# Altium schematic symbol library mems_and_imu_modules.SchLib: 3 symbols
Pins are listed as number, name and electrical type; pins without a type are passive.

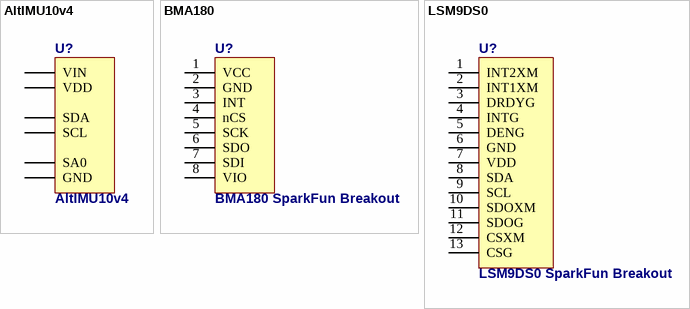
[diagram p0: symbols AltIMU10v4 to LSM9DS0]

## AltIMU10v4
designator U?
Pololu Gyro, Accelerometer, Compass, and Altimeter (L3GD20H, LSM303D, and LPS25H Carrier)
footprint AltIMU-10 v4 (Pololu Gyro, Accelerometer, Compass, and Altimeter (L3GD20H, LSM303D, and LPS25H Carrier))
footprint AltIMU-10 v4_REVERSE (Pololu Gyro, Accelerometer, Compass, and Altimeter (L3GD20H, LSM303D, and LPS25H Carrier))
pins: 1 GND, 2 SA0, 3 VIN, 4 VDD, 5 SDA, 6 SCL

## BMA180
designator U?, comment BMA180 SparkFun Breakout
SEN-09723 (Triple Axis Accelerometer Breakout - BMA180)
footprint BMA180 (SEN-09723 (Triple Axis Accelerometer Breakout - BMA180))
pins: 1 VCC, 2 GND, 3 INT, 4 nCS, 5 SCK, 6 SDO, 7 SDI, 8 VIO

## LSM9DS0
designator U?, comment LSM9DS0 SparkFun Breakout
SEN-12636 (SparkFun 9 Degrees of Freedom IMU Breakout - LSM9DS0)
footprint LSM9DS0 (SEN-12636 (SparkFun 9 Degrees of Freedom IMU Breakout - LSM9DS0))
pins: 1 INT2XM, 2 INT1XM, 3 DRDYG, 4 INTG, 5 DENG, 6 GND, 7 VDD, 8 SDA, 9 SCL, 10 SDOXM, 11 SDOG, 12 CSXM, 13 CSG